# Altium footprint library Arturo_PCB.PcbLib: 5 footprints
Each footprint in its own frame and in the unit in brackets; x right, y up, seen from the top. Pads: shape width x height; smd on the part's side, far side on the other; paste and mask are expansions set on the pad; w line width, h text height; cw(c..) or ccw(c..) is an arc to the next point about the centre after c.
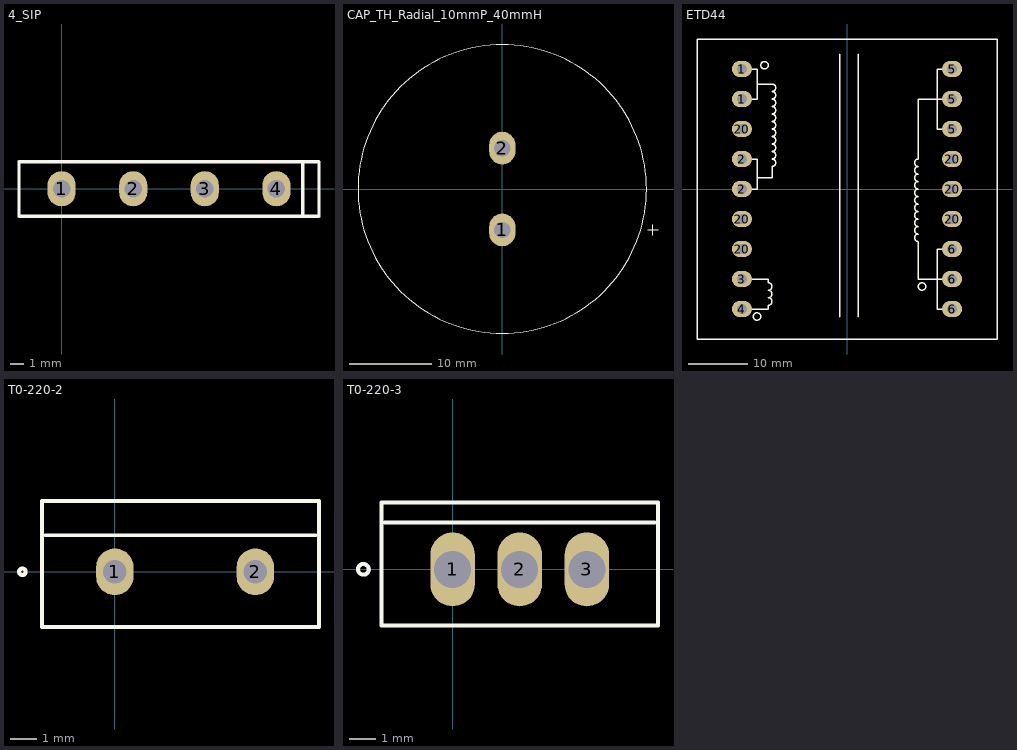
[diagram p0: the footprints below, top view; thin cyan lines are the x and y axes]

## 4_SIP [mm]
pads (4):
  oval 2.08x2.6 hole 1.3: 1(0,0) 2(5.3,0) 3(10.6,0) 4(15.9,0)
Top Overlay:
  lines w0.254: 17.843,-2.021 17.843,1.979 ; -3.157,-2.021 -3.133,-2.044 19.052,-2.044 19.056,-2.041 19.056,2.006 19.052,2.003 -3.133,2.003 -3.157,1.979 -3.157,-2.021
3D body: height 19.1, standoff 8, extent -3.157,-2.021 19.094,2.017

## CAP_TH_Radial_10mmP_40mmH [mm]
pads (2):
  oval 3.2x4 hole 2: 1(0,-5) 2(0,5)
Top Overlay:
  circle w0.152: c0,0.004 r17.628
  lines w0.152: 17.755,-5 19.025,-5 ; 18.39,-5.635 18.39,-4.365
3D body: height 40, standoff 0, extent -17.5,-17.5 17.5,17.5

## ETD44 [mm]
pads (18):
  oval 3.4x2.72 hole 1.7: 1(-17.8,15.24) 1(-17.8,20.32) 2(-17.8,0) 2(-17.8,5.08) 3(-17.8,-15.24) 4(-17.8,-20.32) 5(17.8,10.16) 5(17.8,15.24) 5(17.8,20.32) 6(17.8,-20.32) 6(17.8,-15.24) 6(17.8,-10.16) 20(-17.8,-10.16) 20(-17.8,-5.08) 20(-17.8,10.16) 20(17.8,-5.08) 20(17.8,0) 20(17.8,5.08)
Top Overlay:
  circle w0.254: c-13.97,20.955 r0.635
  circle w0.254: c-15.24,-21.59 r0.635
  circle w0.254: c12.7,-16.51 r0.635
  lines w0.254: -17.8,-20.32 -15.24,-20.32 -13.335,-20.32 -13.335,-19.685 ccw(c-13.335,-19.05) -13.335,-18.415 ccw(c-13.335,-17.78) -13.335,-17.145 ccw(c-13.335,-16.51) -13.335,-15.875 -13.335,-15.24 -15.24,-15.24 -17.8,-15.24 ; -17.8,0 -15.24,0 -15.24,5.08 ; -17.78,5.08 -15.24,5.08 ; -17.78,15.24 -15.24,15.24 -15.24,17.78 ; -17.78,20.32 -15.24,20.32 -15.24,19.685 -15.24,17.78 ; -1.27,-21.59 -1.27,22.86 ; 1.905,-21.59 1.905,22.86 ; 17.78,-10.16 15.24,-10.16 ; 17.78,10.16 15.24,10.16 15.24,20.32 ; 17.8,-20.32 15.24,-20.32 15.24,-10.16 ; 17.8,-15.24 15.24,-15.24 ; 17.8,15.24 15.24,15.24 ; 17.8,20.32 15.24,20.32 ; -15.24,5.08 -15.24,1.905 -12.7,1.905 -12.7,3.81 ccw(c-12.7,4.445) -12.7,5.08 ccw(c-12.7,5.715) -12.7,6.35 ccw(c-12.7,6.985) -12.7,7.62 ccw(c-12.7,8.255) -12.7,8.89 ccw(c-12.7,9.525) -12.7,10.16 ccw(c-12.7,10.795) -12.7,11.43 ccw(c-12.7,12.065) -12.7,12.7 ccw(c-12.7,13.335) -12.7,13.97 ccw(c-12.7,14.605) -12.7,15.24 ccw(c-12.7,15.875) -12.7,16.51 ccw(c-12.7,17.145) -12.7,17.78 -15.24,17.78 ; 15.24,-15.24 15.24,-10.16 ; 15.24,-15.24 12.065,-15.24 12.065,-8.89 cw(c12.065,-8.255) 12.065,-7.62 cw(c12.065,-6.985) 12.065,-6.35 cw(c12.065,-5.715) 12.065,-5.08 cw(c12.065,-4.445) 12.065,-3.81 cw(c12.065,-3.175) 12.065,-2.54 cw(c12.065,-1.905) 12.065,-1.27 cw(c12.065,-0.635) 12.065,0 cw(c12.065,0.635) 12.065,1.27 cw(c12.065,1.905) 12.065,2.54 cw(c12.065,3.175) 12.065,3.81 cw(c12.065,4.445) 12.065,5.08 12.065,15.24 15.24,15.24 ; 15.24,15.24 15.24,20.32 ; -25.4,-25.4 -25.4,25.4 25.4,25.4 25.4,-25.4 -25.4,-25.4
3D body "B66366B1018T001_coil_former_etd44.stp": height 38.09, standoff -4.49, extent -25.5,-24.8 25.5,24.8

## T0-220-2 [mm]
pads (2):
  oval 1.44x1.8 hole 0.9: 1(0,0) 2(5.4,0)
Top Overlay:
  circle w0.152: c-3.556,0 r0.127
  lines w0.152: -2.669,1.405 7.719,1.405 ; -2.796,-2.126 7.846,-2.126 7.846,2.726 -2.796,2.726 -2.796,-2.126
3D body "TO_H1202D_STM.step": height 15.75, standoff -5.08, extent -2.679,-1.981 7.709,2.617

## T0-220-3 [mm]
pads (3):
  oval 1.68x2.8 hole 1.4: 1(0,0) 2(2.54,0) 3(5.08,0)
Top Overlay:
  circle w0.152: c-3.378,0 r0.203
  lines w0.152: -2.565,1.765 7.645,1.765 ; -2.692,-2.121 7.772,-2.121 7.772,2.527 -2.692,2.527 -2.692,-2.121
3D body "PG-TO220-3-1_INF.step": height 17.3, standoff -5.89, extent -2.565,-1.994 7.645,2.4